# EAGLE library part RHS2000-CABLE-CHIP-SIDE (library RHS2000)
Omnetics A79633 PZN-16-AA connector for RHS2000 interface (chip side)
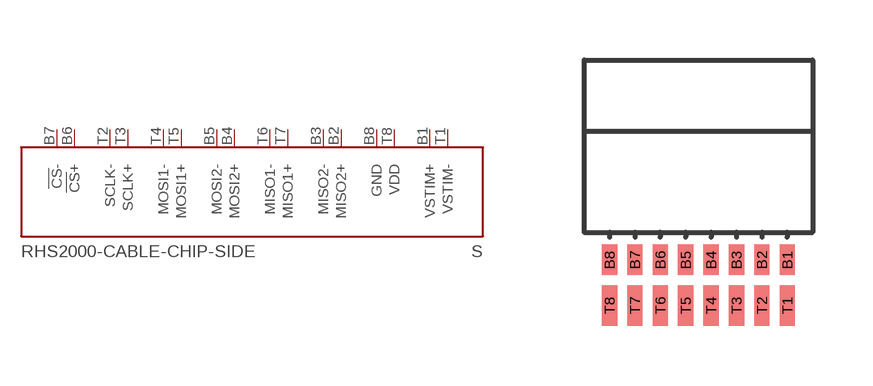
[diagram p2: symbol with the pads of OMNETICS_PZN-16-AA; footprint OMNETICS_PZN-16-AA]

Designator prefix S

## RHS2000-CABLE-CHIP-SIDE  [OMNETICS_PZN-16-AA]
B1  VSTIM+  pwr
B2  MISO2+
B3  MISO2-
B4  MOSI2+
B5  MOSI2-
B6  !CS!+
B7  !CS!-
B8  GND  pwr
T1  VSTIM-  pwr
T2  SCLK-
T3  SCLK+
T4  MOSI1-
T5  MOSI1+
T6  MISO1-
T7  MISO1+
T8  VDD

## Footprint OMNETICS_PZN-16-AA (pad centres in mm)
smd 0.381 x 0.762: B1 2.223,-1.016; B2 1.587,-1.016; B3 0.953,-1.016; B4 0.318,-1.016; B5 -0.318,-1.016; B6 -0.953,-1.016; B7 -1.587,-1.016; B8 -2.223,-1.016
smd 0.381 x 1.016: T1 2.223,-2.159; T2 1.587,-2.159; T3 0.953,-2.159; T4 0.318,-2.159; T5 -0.318,-2.159; T6 -0.953,-2.159; T7 -1.587,-2.159; T8 -2.223,-2.159